# Altium footprint library POT_TH_TYPE1.PcbLib: 1 footprints
Each footprint in its own frame and in the unit in brackets; x right, y up, seen from the top. Pads: shape width x height; smd on the part's side, far side on the other; paste and mask are expansions set on the pad; w line width, h text height; cw(c..) or ccw(c..) is an arc to the next point about the centre after c.
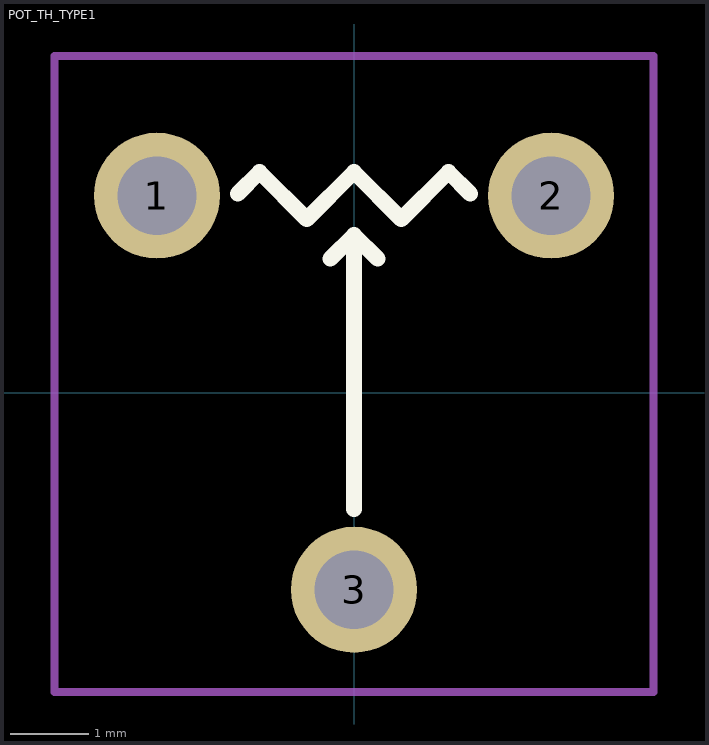
[diagram p0: the footprint, top view; thin cyan lines are the x and y axes]

## POT_TH_TYPE1 [mm]
pads (3):
  round 1.6 hole 1: 1(-2.5,2.5) 2(2.5,2.5) 3(0,-2.5)
Top Overlay:
  lines w0.2: -1.475,2.525 -1.2,2.8 ; -0.3,1.7 0,2 ; 0,-1.475 0,2 ; 0.3,1.7 0,2 ; 1.475,2.525 1.2,2.8 ; -1.2,2.8 -0.6,2.2 0,2.8 ; -1.2,2.8 -1.2,2.8 ; 0,2.8 0,2.8 ; 0,2.8 0.6,2.2 1.2,2.8 ; 1.2,2.8 1.2,2.8
Top Courtyard:
  lines w0.1: -3.8,-3.8 0,-3.8 3.8,-3.8 3.8,4.275 -3.8,4.275 -3.8,-3.8
3D body "User Library-Pot - RES_VAR1.step": height 7.5, standoff -3.4, extent -3.25,-3.275 3.25,3.775